# EAGLE library part 68713014522 (library Eagle_FPC_CONNECTOR_AND_FFC_CAB (rev18c))
WE-FPC 0.5mm SMT ZIF Horizontal Bottom Contact, 30 Pins=>Code : Con_FPC_ZIF_0.50_68713014522 <http://katalog.we-online.de/media/images/eican/Con_FPC_ZIF_0.50_6871xx14522_pf2.jpg> Details see: http://katalog.we-online.de/en/em/687_1xx_145_22 Created 2014-07-09, Karrer Zheng 2014 (C) Würth Elektronik
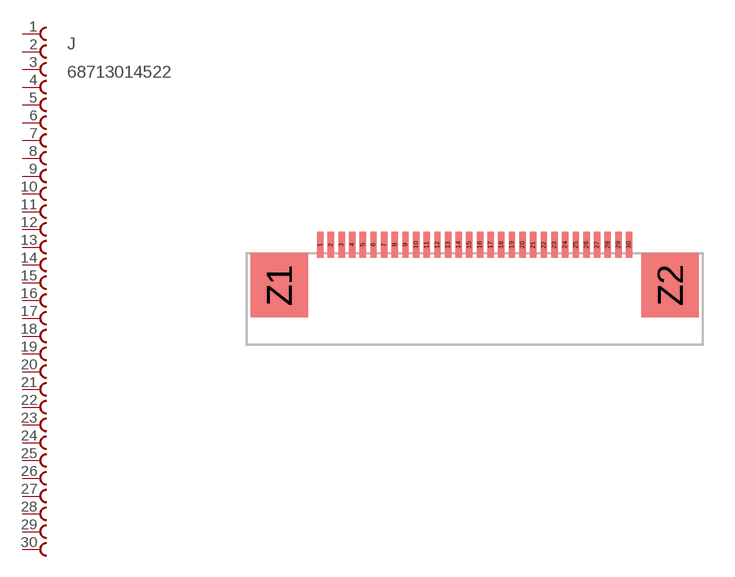
[diagram p38: symbol with the pads of 68713014522; footprint 68713014522]

Designator prefix J

## 68713014522  [68713014522]
1  1  pas
2  2  pas
3  3  pas
4  4  pas
5  5  pas
6  6  pas
7  7  pas
8  8  pas
9  9  pas
10  10  pas
11  11  pas
12  12  pas
13  13  pas
14  14  pas
15  15  pas
16  16  pas
17  17  pas
18  18  pas
19  19  pas
20  20  pas
21  21  pas
22  22  pas
23  23  pas
24  24  pas
25  25  pas
26  26  pas
27  27  pas
28  28  pas
29  29  pas
30  30  pas

## Footprint 68713014522 (pad centres in mm)
WE-FPC 0.5mm SMT ZIF Horizontal Bottom Contact, 30 Pins
smd 0.3 x 1.2: 1 -7.25,1.9; 2 -6.75,1.9; 3 -6.25,1.9; 4 -5.75,1.9; 5 -5.25,1.9; 6 -4.75,1.9; 7 -4.25,1.9; 8 -3.75,1.9; 9 -3.25,1.9; 10 -2.75,1.9; 11 -2.25,1.9; 12 -1.75,1.9; 13 -1.25,1.9; 14 -0.75,1.9; 15 -0.25,1.9; 16 0.25,1.9; 17 0.75,1.9; 18 1.25,1.9; 19 1.75,1.9; 20 2.25,1.9; 21 2.75,1.9; 22 3.25,1.9; 23 3.75,1.9; 24 4.25,1.9; 25 4.75,1.9; 26 5.25,1.9; 27 5.75,1.9; 28 6.25,1.9; 29 6.75,1.9; 30 7.25,1.9
smd 2.7 x 3: Z1 -9.18,0; Z2 9.18,0